# Altium schematic symbol library us9116-006-n.SchLib: 1 symbol
Pins are listed as number, name and electrical type; pins without a type are passive.

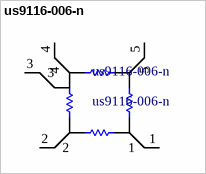
[diagram p0: symbol us9116-006-n]

## us9116-006-n
designator us9116-006-n
footprint us9116-006-n
pins: 1, 2, 3, 4, 5